# Altium footprint library HUMID_TMP_SNS(2.15-5.5V, 16b, 8-DFN, I2C).PcbLib: 3 footprints
Each footprint in its own frame and in the unit in brackets; x right, y up, seen from the top. Pads: shape width x height; smd on the part's side, far side on the other; paste and mask are expansions set on the pad; w line width, h text height; cw(c..) or ccw(c..) is an arc to the next point about the centre after c.
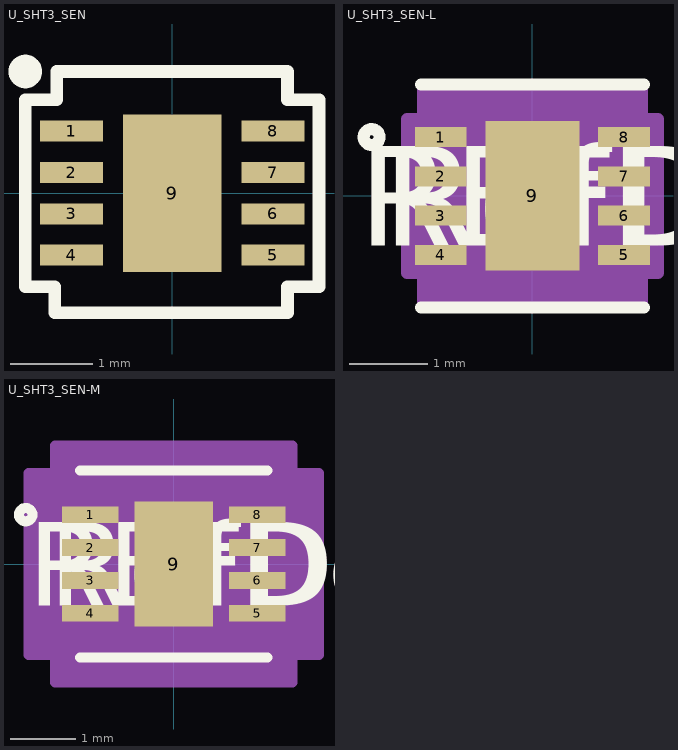
[diagram p0: the footprints below, top view; thin cyan lines are the x and y axes]

## U_SHT3_SEN [mil]
pads (9):
  rect 30x10 smd paste+0 mask+0: 1(-48,29.54) 2(-48,9.85) 3(-48,-9.85) 4(-48,-29.54) 5(48,-29.54) 6(48,-9.85) 7(48,9.85) 8(48,29.54)
  rect 47x75 smd paste+0 mask+0: 9(0,0)
Top Overlay:
  circle w10: c-70,58 r3
  lines w6: -70,-44.53 -70,44.53 -55,44.53 -55,58 55,58 55,44.53 70,44.53 70,-44.53 55,-44.53 55,-57 -56,-57 -56,-44.53 -70,-44.53
3D body "SHT31-DIS-B2.5KS.STEP": height 35.43, standoff -0.04, extent -49.25,-49.25 49.25,49.25

## U_SHT3_SEN-L [mil]
pads (9):
  rect 26x10 smd paste+0 mask+0: 1(-46,29.54) 2(-46,9.85) 3(-46,-9.85) 4(-46,-29.54) 5(46,-29.54) 6(46,-9.85) 7(46,9.85) 8(46,29.54)
  rect 47x75 smd paste+0 mask+0: 9(0,0)
Top Overlay:
  circle w6: c-80.69,29.54 r4
  lines w6: -56,-56 56,-56 ; -56,56 56,56
  text "RefDes" at -75,-25 h50
  text "REFDES" at -87.5,-25 h50
Mechanical 13:
  circle w0: c-33,29.54 r3
  lines w0: -12,51 ccw(c0,51) 12,51
  lines w1: -51,-51 51,-51 51,51 -51,51 -51,-51
  text "RefDes2" at -87.5,-25 h50
Mechanical 15:
  region: -55,-38.53 -63,-38.53 -63,38.53 -55,38.53 -55,55 55,55 55,38.53 63,38.53 63,-38.53 55,-38.53 55,-55 -55,-55
  lines w6: -63,-38.53 -63,38.53 -55,38.53 -55,55 55,55 55,38.53 63,38.53 63,-38.53 55,-38.53 55,-55 -55,-55 -55,-38.53 -63,-38.53
3D body "U_SHT3_SEN.step": height 39.09, standoff 0, extent -50.98,-50.98 50.98,50.98

## U_SHT3_SEN-M [mil]
pads (9):
  rect 34x10 smd paste+0 mask+0: 1(-50,29.54) 2(-50,9.85) 3(-50,-9.85) 4(-50,-29.54) 5(50,-29.54) 6(50,-9.85) 7(50,9.85) 8(50,29.54)
  rect 47x75 smd paste+0 mask+0: 9(0,0)
Top Overlay:
  circle w6: c-88.69,29.54 r4
  lines w6: -56,-56 56,-56 ; -56,56 56,56
  text "RefDes" at -75,-25 h50
  text "REFDES" at -87.5,-25 h50
Mechanical 13:
  circle w0: c-33,29.54 r3
  lines w0: -12,51 ccw(c0,51) 12,51
  lines w1: -51,-51 51,-51 51,51 -51,51 -51,-51
  text "RefDes2" at -87.5,-25 h50
Mechanical 15:
  region: -71,-54.53 -87,-54.53 -87,54.53 -71,54.53 -71,71 71,71 71,54.53 87,54.53 87,-54.53 71,-54.53 71,-71 -71,-71
  lines w6: -87,-54.53 -87,54.53 -71,54.53 -71,71 71,71 71,54.53 87,54.53 87,-54.53 71,-54.53 71,-71 -71,-71 -71,-54.53 -87,-54.53
3D body "U_SHT3_SEN.step": height 39.09, standoff 0, extent -50.98,-50.98 50.98,50.98